# EAGLE library part TB6612FNG,C,8,EL (library IC_Power-Management)
Driver IC for Dual DC motor Datasheet <https://toshiba.semicon-storage.com/info/docget.jsp?did=10660&prodName=TB6612FNG>
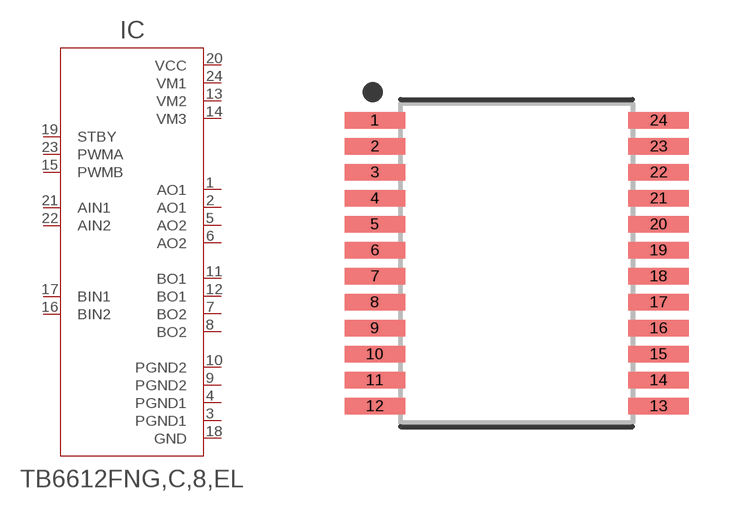
[diagram p10: symbol with the pads of SOP65P760X160-24N; footprint SOP65P760X160-24N]

Designator prefix IC

## TB6612FNG,C,8,ELSSOP24 (CATEGORY: IC_Power-Management; MANUFACTURER: Toshiba; MPN: TB6612FNG,C,8,EL; OPERATING_TEMP: -20 to +85 °C; PART_STATUS: Active; ROHS_COMPLIANT: Compliant; SUB-CATEGORY: Driver; THERMALLOSS: 0.78W)  [SOP65P760X160-24N]
1  AO1  out
2  AO1  out
3  PGND1  pas
4  PGND1  pas
5  AO2  out
6  AO2  out
7  BO2  out
8  BO2  out
9  PGND2  pas
10  PGND2  pas
11  BO1  out
12  BO1  out
13  VM2  pwr
14  VM3  pwr
15  PWMB  in
16  BIN2  in
17  BIN1  in
18  GND  pas
19  STBY  in
20  VCC  pwr
21  AIN1  in
22  AIN2  in
23  PWMA  in
24  VM1  pwr

## Footprint SOP65P760X160-24N (pad centres in mm)
24-SOP, 0.65 mm pitch, 7.60 mm span, 7.80 X 5.60 X 1.60 mm body 24-pin SOP package with 0.65 mm pitch, 7.60 mm span with body size 7.80 X 5.60 X 1.60 mm
smd 1.515 x 0.409: 1 -3.548,3.575; 2 -3.548,2.925; 3 -3.548,2.275; 4 -3.548,1.625; 5 -3.548,0.975; 6 -3.548,0.325; 7 -3.548,-0.325; 8 -3.548,-0.975; 9 -3.548,-1.625; 10 -3.548,-2.275; 11 -3.548,-2.925; 12 -3.548,-3.575; 13 3.548,-3.575; 14 3.548,-2.925; 15 3.548,-2.275; 16 3.548,-1.625; 17 3.548,-0.975; 18 3.548,-0.325; 19 3.548,0.325; 20 3.548,0.975; 21 3.548,1.625; 22 3.548,2.275; 23 3.548,2.925; 24 3.548,3.575